# Altium footprint library 编码电子锁.PcbLib: 12 footprints
Each footprint in its own frame and in the unit in brackets; x right, y up, seen from the top. Pads: shape width x height; smd on the part's side, far side on the other; paste and mask are expansions set on the pad; w line width, h text height; cw(c..) or ccw(c..) is an arc to the next point about the centre after c.
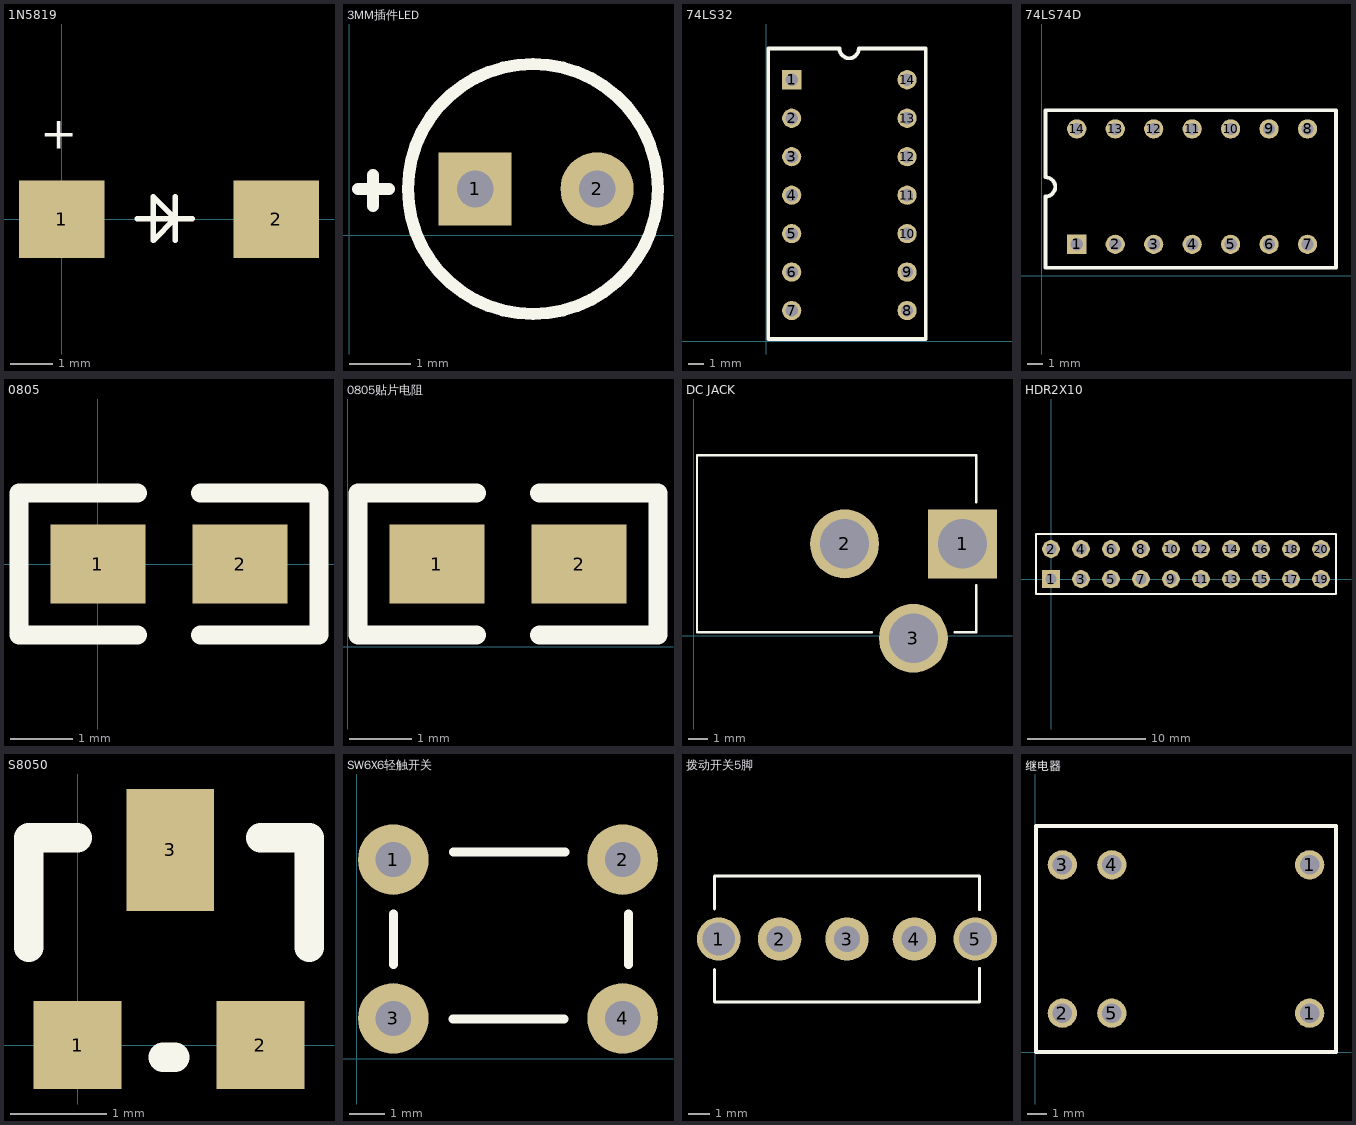
[diagram p0: the footprints below, top view; thin cyan lines are the x and y axes]

## 1N5819 [mm]
pads (2):
  rect 2x1.8 smd: 1(0,0) 2(5,0)
Top Overlay:
  lines w0.127: 1.755,0.015 3.048,0.015 ; 2.644,-0.493 2.644,0.523 ; 2.136,-0.493 2.644,0.015 2.136,0.523 2.136,-0.493
  text "+" at -0.508,1.651 h0.76

## 3MM插件LED [mm]
pads (2):
  rect 1.2x1.2 hole 0.6: 1(2.067,0.758)
  round 1.2 hole 0.6: 2(4.067,0.758)
Top Overlay:
  circle w0.2: c3.016,0.758 r2.051
  lines w0.2: 0.146,0.758 0.654,0.758 ; 0.391,0.479 0.391,0.987

## 74LS32 [mil]
pads (14):
  rect 50x50 hole 32: 1(66.65,680.47)
  round 50 hole 32: 2(66.65,580.47) 3(66.65,480.47) 4(66.65,380.47) 5(66.65,280.47) 6(66.65,180.47) 7(66.65,80.47) 8(366.65,80.47) 9(366.65,180.47) 10(366.65,280.47) 11(366.65,380.47) 12(366.65,480.47) 13(366.65,580.47) 14(366.65,680.47)
Top Overlay:
  lines w10: 415.16,6.5 5.71,6.5 5.71,761.5 190.87,761.5 ccw(c215.87,761.5) 240.87,761.5 415.16,761.5 ; 415.16,761.5 415.16,11.5 415.16,761.5

## 74LS74D [mil]
pads (14):
  rect 50x50 hole 32: 1(91.18,81.42)
  round 50 hole 32: 2(191.18,81.42) 3(291.18,81.42) 4(391.18,81.42) 5(491.18,81.42) 6(591.18,81.42) 7(691.18,81.42) 8(691.18,381.42) 9(591.18,381.42) 10(491.18,381.42) 11(391.18,381.42) 12(291.18,381.42) 13(191.18,381.42) 14(91.18,381.42)
Top Overlay:
  lines w10: 765.16,429.92 765.16,20.47 10.16,20.47 10.16,205.63 ccw(c10.16,230.63) 10.16,255.63 10.16,429.92 ; 10.16,429.92 760.16,429.92 10.16,429.92

## 0805 [mil]
pads (2):
  rect 60x50 smd: 1(0,0) 2(90,0)
Top Overlay:
  lines w12: 25,-45 -50,-45 -50,45 25,45 ; 65,-45 140,-45 140,45 65,45

## 0805贴片电阻 [mil]
pads (2):
  rect 60x50 smd: 1(56.34,52.4) 2(146.34,52.4)
Top Overlay:
  lines w12: 81.34,7.4 6.34,7.4 6.34,97.4 81.34,97.4 ; 121.34,7.4 196.34,7.4 196.34,97.4 121.34,97.4

## DC JACK [mm]
pads (3):
  rect 3.5x3.5 hole 2.5: 1(13.655,4.661)
  round 3.5 hole 2.5: 2(7.655,4.661) 3(11.155,-0.139)
Top Overlay:
  lines w0.127: 9.039,0.161 0.155,0.161 0.155,9.161 14.355,9.161 14.355,6.78 ; 13.261,0.161 14.355,0.161 14.355,2.555

## HDR2X10 [mm] "Connector; Header; 10x2 Position"
pads (20):
  rect 1.5x1.5 hole 0.9: 1(0,0)
  round 1.5 hole 0.9: 2(0,2.54) 3(2.54,0) 4(2.54,2.54) 5(5.08,0) 6(5.08,2.54) 7(7.62,0) 8(7.62,2.54) 9(10.16,0) 10(10.16,2.54) 11(12.7,0) 12(12.7,2.54) 13(15.24,0) 14(15.24,2.54) 15(17.78,0) 16(17.78,2.54) 17(20.32,0) 18(20.32,2.54) 19(22.86,0) 20(22.86,2.54)
Top Overlay:
  lines w0.2: -1.27,-1.27 -1.27,3.81 0.635,3.81 24.13,3.81 24.13,-1.27 0.635,-1.27 -1.27,-1.27

## S8050 [mil]
height 53.15
pads (3):
  rect 36x36 smd: 1(0,0) 2(75,0)
  rect 36x50 smd: 3(38,80)
Top Overlay:
  lines w12: -20,40 -20,85 0,85 ; 35,-5 40,-5 ; 75,85 95,85 95,40

## SW6X6轻触开关 [mm]
pads (4):
  round 2 hole 1: 1(1.038,5.641) 2(7.538,5.641) 3(1.038,1.141) 4(7.538,1.141)
Top Overlay:
  lines w0.254: 1.05,2.675 1.05,4.1 ; 2.725,1.125 5.875,1.125 ; 2.75,5.85 5.9,5.85 ; 7.7,2.675 7.7,4.1

## 拨动开关5脚 [mm]
pads (5):
  round 2 hole 1.5: 1(11.303,18.673) 5(23.103,18.673)
  round 2 hole 1.2: 2(14.103,18.673) 3(17.203,18.673) 4(20.303,18.673)
Top Overlay:
  lines w0.127: 11.103,17.272 11.103,15.773 23.303,15.773 23.303,17.328 ; 11.103,20.053 11.103,21.573 23.303,21.573 23.303,20.022

## 继电器 [mm]
pads (6):
  round 1.5 hole 1: 1(14.1,1.999) 1(14.1,9.619) 2(1.4,1.999) 3(1.4,9.619) 4(3.94,9.619) 5(3.94,1.999)
Top Overlay:
  lines w0.2: 0.05,0.009 15.45,0.009 15.45,11.609 0.05,11.609 0.05,0.009